# EAGLE library part STEP-DRV (library Namenlos)
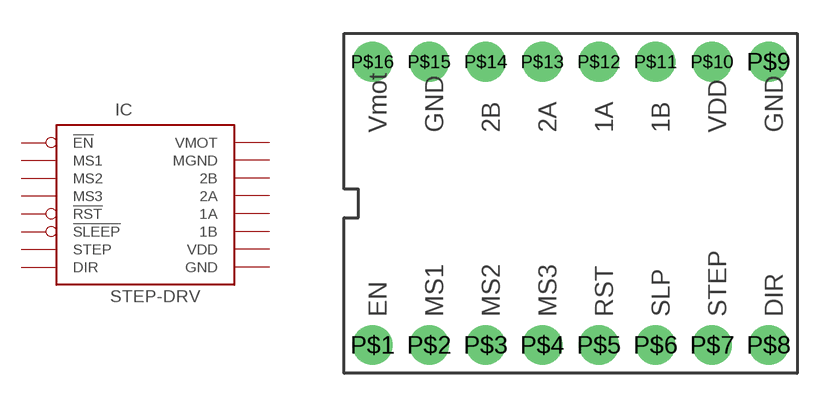
[diagram p33: symbol with the pads of DRV-BRK; footprint DRV-BRK]

Designator prefix IC

## STEP-DRV  [DRV-BRK]
P$1  !EN
P$2  MS1
P$3  MS2
P$4  MS3
P$5  !RST
P$6  !SLEEP
P$7  STEP
P$8  DIR
P$9  GND
P$10  VDD
P$11  1B
P$12  1A
P$13  2A
P$14  2B
P$15  MGND
P$16  VMOT

## Footprint DRV-BRK (pad centres in mm)
drill 0.9 pad 1.778: P$1 -8.89,-6.35; P$2 -6.35,-6.35; P$3 -3.81,-6.35; P$4 -1.27,-6.35; P$5 1.27,-6.35; P$6 3.81,-6.35; P$7 6.35,-6.35; P$8 8.89,-6.35; P$9 8.89,6.35; P$10 6.35,6.35; P$11 3.81,6.35; P$12 1.27,6.35; P$13 -1.27,6.35; P$14 -3.81,6.35; P$15 -6.35,6.35; P$16 -8.89,6.35